# Altium footprint library TE_6-534998-8.PcbLib: 1 footprints
Each footprint in its own frame and in the unit in brackets; x right, y up, seen from the top. Pads: shape width x height; smd on the part's side, far side on the other; paste and mask are expansions set on the pad; w line width, h text height; cw(c..) or ccw(c..) is an arc to the next point about the centre after c.
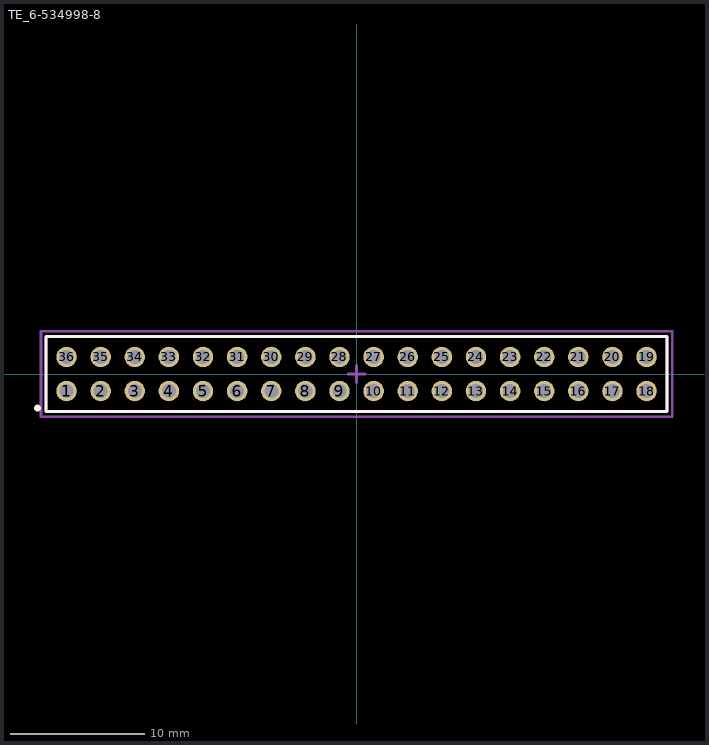
[diagram p0: the footprint, top view; thin cyan lines are the x and y axes]

## TE_6-534998-8 [mil]
pads (36):
  round 60 hole 41: 1(-850,-50) 2(-750,-50) 3(-650,-50) 4(-550,-50) 5(-450,-50) 6(-350,-50) 7(-250,-50) 8(-150,-50) 9(-50,-50) 10(50,-50) 11(150,-50) 12(250,-50) 13(350,-50) 14(450,-50) 15(550,-50) 16(650,-50) 17(750,-50) 18(850,-50) 19(850,50) 20(750,50) 21(650,50) 22(550,50) 23(450,50) 24(350,50) 25(250,50) 26(150,50) 27(50,50) 28(-50,50) 29(-150,50) 30(-250,50) 31(-350,50) 32(-450,50) 33(-550,50) 34(-650,50) 35(-750,50) 36(-850,50)
Top Overlay:
  lines w7.87: -910,-110 910,-110 910,110 -910,110 -910,-110
  lines w10: -930.33,-98.22 ccw(c-935,-100) -930,-100
Mechanical 15:
  lines w7.87: -25,0 25,0 ; 0,-25 0,25 ; -925,-125 -925,125 925,125 925,-125 -925,-125
Mechanical 17:
  lines w7.87: -910,-110 -910,110 910,110 910,-110 -910,-110
  text ".Designator" at -875,-60 h60
Mechanical 19:
  lines w7.87: -910,-110 -910,110 910,110 910,-110 -910,-110
  text ".Comment" at -870,-75 h60
3D body: height 265, standoff -125, extent -900,-98.99 900,99.01